# Altium schematic symbol library CRYSTAL.SchLib: 1 symbol
Pins are listed as number, name and electrical type; pins without a type are passive.

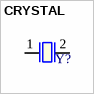
[diagram p0: symbol CRYSTAL]

## CRYSTAL
designator Y?
XTAL 32.768kHz 12.5pF 1.05pF 20ppm SMT
pins: 1, 2